# Altium schematic symbol library IRF7821PBF.SchLib: 2 symbols
Pins are listed as number, name and electrical type; pins without a type are passive.

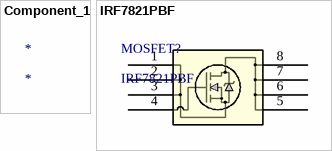
[diagram p0: symbols Component_1 to IRF7821PBF]

## Component_1
designator *

## IRF7821PBF
designator MOSFET?
No Description Available; Mfr_Name: Infineon; Copyright: Copyright (C) 2021 Ultra Librarian. All rights reserved.; Manufacturer_Part_Number: IRF7821PBF; RefDes: RefDes; Type: DEV
footprint SO-8_INF
pins: 1, 2, 3, 4, 5, 6, 7, 8